# Altium footprint library CustomFootprint.PcbLib: 13 footprints
Each footprint in its own frame and in the unit in brackets; x right, y up, seen from the top. Pads: shape width x height; smd on the part's side, far side on the other; paste and mask are expansions set on the pad; w line width, h text height; cw(c..) or ccw(c..) is an arc to the next point about the centre after c.
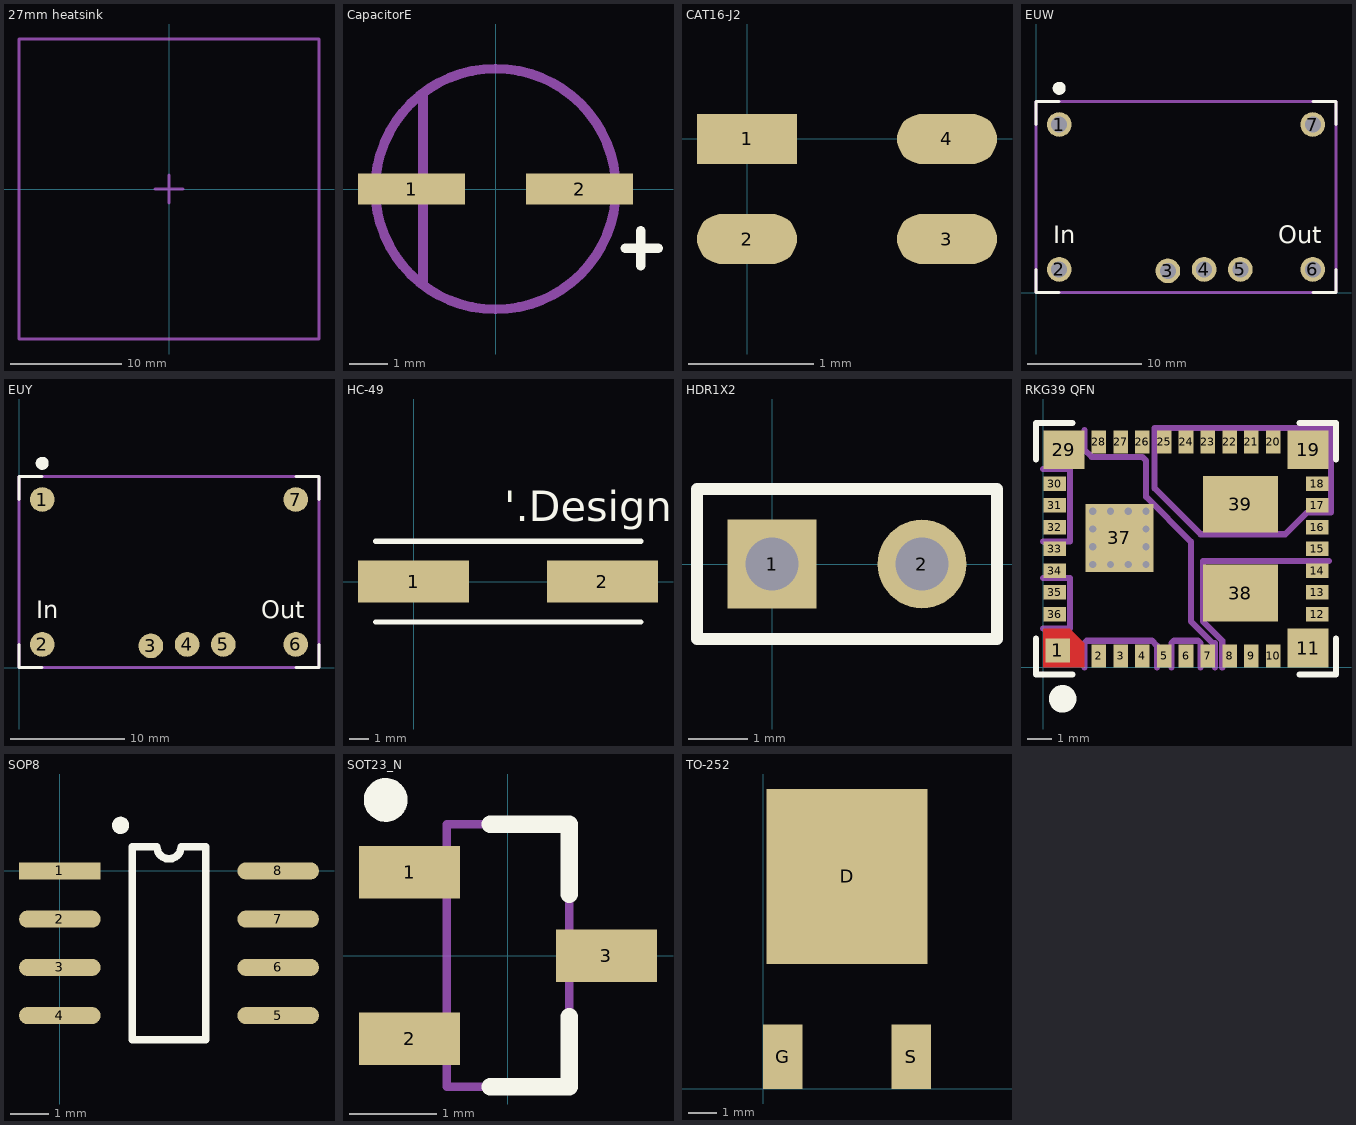
[diagram p0: the footprints below, top view; thin cyan lines are the x and y axes]

## 27mm heatsink [mm]
height 23
Mechanical 1:
  lines w0.254: -1.27,0 0,0 ; 0,-1.27 0,0 ; 0,1.27 0,0 ; 1.27,0 0,0 ; -13.5,-13.5 -13.5,13.5 13.5,13.5 13.5,-13.5 -13.5,-13.5
3D body: height 11.73, standoff 2.23, extent -15,-15 15,15

## CapacitorE [mm]
pads (2):
  rect 2.8x0.8 smd: 1(-2.2,0) 2(2.2,0)
Top Overlay:
  lines w0.254: 3.4,-1.55 3.8,-1.55 4.25,-1.55 ; 3.8,-2 3.8,-1.1
Mechanical 1:
  circle w0.254: c0,0 r3.15
  lines w0.254: -1.9,-2.5 -1.9,2.5
3D body: height 7.7, standoff 0, extent -3.3,-3.3 3.3,3.3

## CAT16-J2 [mm]
pads (4):
  rect 0.8x0.4 smd: 1(0,0)
  oval 0.8x0.4 smd: 2(0,-0.8) 3(1.6,-0.8) 4(1.6,0)

## EUW [mil] "ThroughHole TI regulator package"
height 354.33
pads (7):
  round 85 hole 55: 1(80,580) 2(80,80) 3(455,75) 4(580,80) 5(705,80) 6(955,80) 7(955,580)
Top Overlay:
  circle w25: c80,705 r10
  lines w10: 0,80 0,0 80,0 ; 0,580 0,660 80,660 ; 955,0 1035,0 1035,80 ; 955,660 1035,660 1035,580
  text "Out" at 835,170 h60
  text "In" at 60,170 h60
Mechanical 15:
  lines w10: 0,0 1035,0 1035,660 0,660 0,0
3D body: height 354, standoff 10, extent 20,20 1015,640

## EUY [mil] "SMD TI regulator package"
height 354.33
pads (7):
  round 85 smd: 1(80,580) 2(80,80) 3(455,75) 4(580,80) 5(705,80) 6(955,80) 7(955,580)
Top Overlay:
  circle w25: c80,705 r10
  lines w10: 0,80 0,0 80,0 ; 0,580 0,660 80,660 ; 955,0 1035,0 1035,80 ; 955,660 1035,660 1035,580
  text "Out" at 835,170 h60
  text "In" at 60,170 h60
Mechanical 15:
  lines w10: 0,0 1035,0 1035,660 0,660 0,0
3D body: height 354, standoff 10, extent 20,20 1015,640

## HC-49 [mil]
pads (2):
  rect 220x83 smd: 1(0,0) 2(374,0)
Top Overlay:
  lines w10: -75,-80 450,-80 ; -75,80 450,80
  text "'.Designator'" at 180,120 h60

## HDR1X2 [mm] "Connector; Header; 2 Position"
pads (2):
  rect 1.5x1.5 hole 0.9: 1(0,0)
  round 1.5 hole 0.9: 2(2.54,0)
Top Overlay:
  lines w0.2: -1.27,-1.27 -1.27,1.27 3.81,1.27 3.81,-1.27 -1.27,-1.27

## PCBComponent_1 [mm]

## PCBComponent_1 - duplicate [mm]

## RKG39 QFN [mm]
height 2.9
pads (39):
  rect 1x1 smd paste-11 mask-0.6: 1(0.6,0.7)
  rect 0.6x0.95 smd paste-0.025 mask+0.07: 2(2.3,0.475) 3(3.2,0.475) 4(4.1,0.475) 5(5,0.475) 6(5.9,0.475) 7(6.8,0.475) 8(7.7,0.475) 9(8.6,0.475) 10(9.5,0.475) 20(9.5,9.325) 21(8.6,9.325) 22(7.7,9.325) 23(6.8,9.325) 24(5.9,9.325) 25(5,9.325) 26(4.1,9.325) 27(3.2,9.325) 28(2.3,9.325)
  rect 1.7x1.6 smd paste-11 mask+0.07: 11(10.95,0.8) 19(10.95,9)
  rect 0.95x0.6 smd paste-0.025 mask+0.07: 12(11.325,2.2) 13(11.325,3.1) 14(11.325,4) 15(11.325,4.9) 16(11.325,5.8) 17(11.325,6.7) 18(11.325,7.6) 30(0.475,7.6) 31(0.475,6.7) 32(0.475,5.8) 33(0.475,4.9) 34(0.475,4) 35(0.475,3.1) 36(0.475,2.2)
  rect 1.7x1.6 smd paste-99 mask+0.07: 29(0.85,9)
  rect 2.8x2.8 smd paste-11 mask-0.6: 37(3.15,5.35)
  rect 3.1x2.35 smd paste-11 mask+0.07: 38(8.15,3.07) 39(8.15,6.74)
via 3.517,6.45 diameter 0.5 hole 0.3
via 2.783,6.45 diameter 0.5 hole 0.3
via 2.05,6.45 diameter 0.5 hole 0.3
via 4.25,4.25 diameter 0.5 hole 0.3
via 2.05,4.25 diameter 0.5 hole 0.3
via 4.25,6.45 diameter 0.5 hole 0.3
via 2.05,4.983 diameter 0.5 hole 0.3
via 2.05,5.717 diameter 0.5 hole 0.3
via 2.783,4.25 diameter 0.5 hole 0.3
via 3.517,4.25 diameter 0.5 hole 0.3
via 4.25,5.717 diameter 0.5 hole 0.3
via 4.25,4.983 diameter 0.5 hole 0.3
Top Layer:
  region: 0,0 1.7,0 1.7,0.99 1.09,1.6 0,1.6
Top Overlay:
  circle w0.635: c0.8,-1.3 r0.254
  lines w0.254: -0.3,1.2 -0.3,-0.3 1.2,-0.3 ; -0.3,8.6 -0.3,10.1 1.2,10.1 ; 10.6,-0.3 12.1,-0.3 12.1,1.2 ; 10.6,10.1 12.1,10.1 12.1,8.6
Top Paste:
  rectangle: 2.375,5.5 3,6.125
  rectangle: 3.3,5.5 3.925,6.125
  rectangle: 2.375,4.575 3,5.2
  rectangle: 3.3,4.575 3.925,5.2
  rectangle: 0.203,8.225 1.675,9.465
  rectangle: 10.128,8.225 11.6,9.465
  rectangle: 10.128,0.325 11.6,1.565
  rectangle: 8.3,2.085 9.55,2.975
  rectangle: 6.75,2.085 8,2.975
  rectangle: 6.75,3.175 8,4.065
  rectangle: 8.3,3.175 9.55,4.065
  rectangle: 8.325,6.85 9.575,7.74
  rectangle: 6.775,6.85 8.025,7.74
  rectangle: 6.775,5.76 8.025,6.65
  rectangle: 8.325,5.76 9.575,6.65
  region: 0.198,0.33 1.67,0.33 1.67,0.98 1.08,1.57 0.198,1.57
Mechanical 13:
  lines w0.254: 0,1.6 1.1,1.6 1.1,3.7 0,3.7 ; 0,5.2 1.1,5.2 1.1,8.2 0,8.2 ; 1.7,0 1.7,1 1.8,1.1 4.5,1.1 4.7,0.9 4.7,0 ; 1.7,9.8 1.7,9 2,8.7 4.1,8.7 4.25,8.55 4.25,7.05 6.1,5.2 6.1,1.9 7,1 7.1,1 7.1,0 ; 5.3,0 5.3,1 5.4,1.1 6.4,1.1 6.5,1 6.5,0 ; 7.4,0 7.4,1.1 6.6,1.9 6.6,4.4 11.8,4.4 ; 4.6,7.4 6.5,5.5 10,5.5 10.9,6.4 11.9,6.4 11.9,9.9 4.6,9.9 4.6,8.7 4.6,7.4
  text "GND" at 2,2.8 h1.52
  text "VOUT" at 7.4,2.1 h1.52
  text "PH" at 7.5,7.4 h1.52
3D body: height 2.9, standoff 0, extent 0.4,0.4 11.4,9.4

## SOP8 [mm]
pads (8):
  rect 2.15x0.45 smd: 1(0,0)
  oval 2.15x0.45 smd: 2(0,-1.27) 3(0,-2.54) 4(0,-3.81) 5(5.75,-3.81) 6(5.75,-2.54) 7(5.75,-1.27) 8(5.75,0)
Top Overlay:
  circle w0.254: c1.6,1.2 r0.1
  lines w0.2: 1.91,-4.445 1.91,0.635 2.558,0.635 ccw(c2.875,0.635) 3.193,0.635 3.84,0.635 3.84,-4.445 1.91,-4.445

## SOT23_N [mm] "SOT23, 3-Leads, Body 2.9x1.3mm, Pitch 0.95mm, Lead Span 2.3mm - Reverse Pinning, IPC Medium Density"
height 1.1
pads (3):
  rect 1.15x0.6 smd: 1(-1.125,0.95) 2(-1.125,-0.95) 3(1.125,0)
Top Overlay:
  circle w0.25: c-1.397,1.778 r0.125
  lines w0.2: -0.2,-1.5 0.7,-1.5 0.7,-0.7 ; -0.2,1.5 0.7,1.5 0.7,0.7
Mechanical 13:
  lines w0.1: -0.7,-1.5 0.7,-1.5 0.7,1.5 -0.7,1.5 -0.7,-1.5
3D body: height 1.1, standoff 0, extent -0.7,-1.5 0.7,1.5

## TO-252 [mil]
height 93.7
pads (3):
  rect 225x245 smd: D(117.5,297.5)
  rect 55x90 smd mask+4: G(27.5,45) S(207.5,45)
Top Overlay:
  text ".Designator" at 35,460 h60